# EAGLE library part FTDI-BOARD (library my_lib)
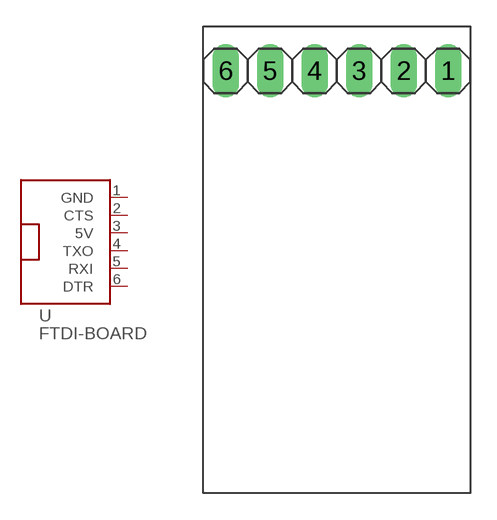
[diagram p3: symbol with the pads of FTDI-BOARD; footprint FTDI-BOARD]

Designator prefix -

## FTDI-BOARD  [FTDI-BOARD]
1  GND  pwr
2  CTS  in
3  5V  pwr
4  TXO  out
5  RXI  in
6  DTR  out

## Footprint FTDI-BOARD (pad centres in mm)
drill 1.016 long: 1 0,3.81; 2 -2.54,3.81; 3 -5.08,3.81; 4 -7.62,3.81; 5 -10.16,3.81; 6 -12.7,3.81